# Altium schematic symbol library TISP4015L1BJR-S.Schlib: 1 symbol
Pins are listed as number, name and electrical type; pins without a type are passive.

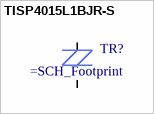
[diagram p0: symbol TISP4015L1BJR-S]

## TISP4015L1BJR-S
designator TR?  (value not drawn)
Thyristor Surge Protection Devices 8V 22A 2-Pin SMB
pins: 1, 2